# Altium schematic symbol library STM32L15xCx.SchLib: 1 symbol
Pins are listed as number, name and electrical type; pins without a type are passive.

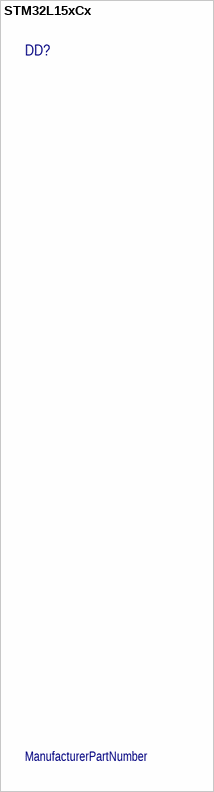
[diagram p0: symbol STM32L15xCx]

## STM32L15xCx
designator DD?  (value not drawn)
ManufacturerPartNumber: ManufacturerPartNumber